# EAGLE library part LED_RGB_6_PIN (library Taylor)
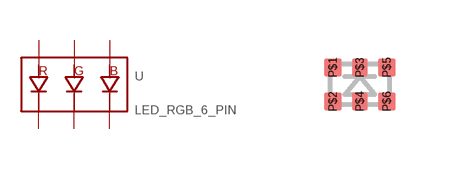
[diagram p42: symbol with the pads of LED_PICOLEDRGB_6; footprint LED_PICOLEDRGB_6]

Designator prefix -

## LED_RGB_6_PINPICORGB_6  [LED_PICOLEDRGB_6]
P$1  CATB
P$2  ANB
P$3  CATR
P$4  ANR
P$5  CATG
P$6  ANG

## Footprint LED_PICOLEDRGB_6 (pad centres in mm)
smd 0.45 x 0.45: P$1 -0.675,0.425; P$2 -0.675,-0.425; P$5 0.675,0.425; P$6 0.675,-0.425
smd 0.4 x 0.45: P$3 0,0.425; P$4 0,-0.425